# Altium schematic symbol library KIP_2.SchLib: 5 symbols
Pins are listed as number, name and electrical type; pins without a type are passive.

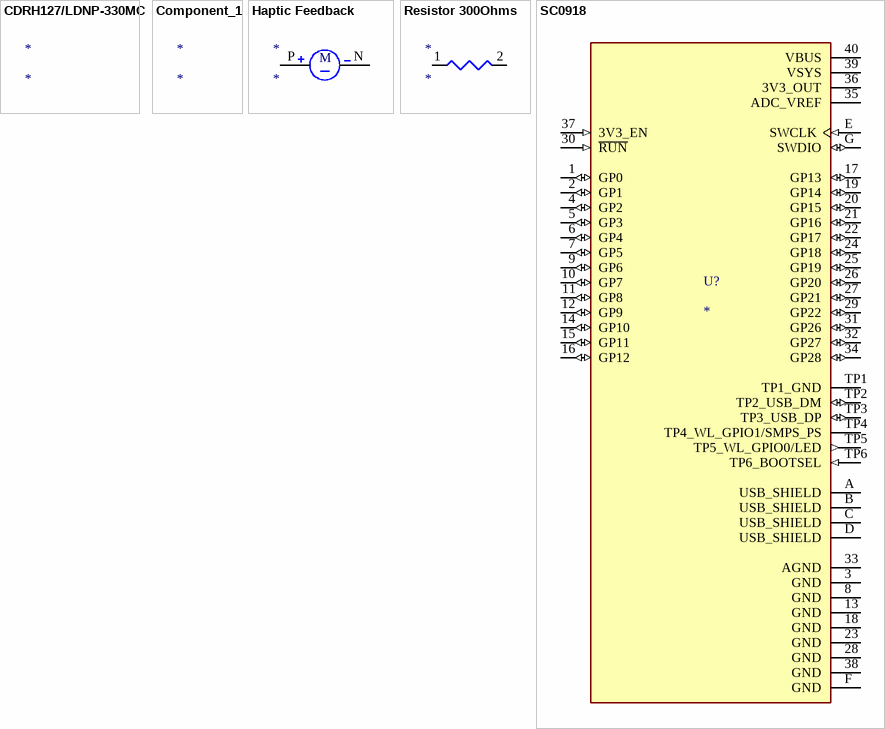
[diagram p0: symbols CDRH127/LDNP-330MC to SC0918]

## CDRH127/LDNP-330MC
designator *
General Purpose Inductor, 33uH, 20%, 1 Element, Ferrite-Core, SMD, 4747; Manufacturer: Sumida; Manufacturer Part Number: CDRH127/LDNP-330MC; Supplier: Mouser; Supplier Part Number: 851-CDRH127LDNP330MC; RoHS: Yes; Category: Fixed Inductors; Stock: 545; Pricing: 1=1.1, 10=0.906, 50=0.906, 100=0.745, 1000=0.519, 10000=0.519 (USD); Reach SVHC Compliant: No; ComponentLink1URL: https://datasheet.ciiva.com/18168/getdatasheetpartid-359498-18168744.pdf?src-supplier=Verical; ComponentLink1Description: https://datasheet.ciiva.com/18168/getdatasheetpartid-359498-18168744.pdf?src-supplier=Verical

## Component_1
designator *

## Haptic Feedback
designator *
footprint PCBComponent_1 - duplicate
pins: N NEG, P POS
text: M

## Resistor 300Ohms
designator *
pins: 1, 2

## SC0918
designator U?
RP2040 Raspberry Pi Pico - ARMÂ® CortexÂ®-M0+ MCU 32-Bit Embedded Evaluation Board; MP: SC0918; MF: Raspberry Pi; Package: None; Price: None; Check_prices: https://www.snapeda.com/parts/SC0918/Raspberry+Pi/view-part/?ref=eda; Value: *; SnapEDA_Link: https://www.snapeda.com/parts/SC0918/Raspberry+Pi/view-part/?ref=snap; Availability: In Stock; Purchase-URL: https://pricing.snapeda.com/search/part/SC0918/?ref=eda
footprint MODULE_SC0918
pins: 1 GP0 (io), 2 GP1 (io), 3 GND (power), 4 GP2 (io), 5 GP3 (io), 6 GP4 (io), 7 GP5 (io), 8 GND (power), 9 GP6 (io), 10 GP7 (io), 11 GP8 (io), 12 GP9 (io), 13 GND (power), 14 GP10 (io), 15 GP11 (io), 16 GP12 (io), 17 GP13 (io), 18 GND (power), 19 GP14 (io), 20 GP15 (io), 21 GP16 (io), 22 GP17 (io), 23 GND (power), 24 GP18 (io), 25 GP19 (io), 26 GP20 (io), 27 GP21 (io), 28 GND (power), 29 GP22 (io), 30 ~{RUN} (in), 31 GP26 (io), 32 GP27 (io), 33 AGND (power), 34 GP28 (io), 35 ADC_VREF (power), 36 3V3_OUT (power), 37 3V3_EN (in), 38 GND (power), 39 VSYS (power), 40 VBUS (power), A USB_SHIELD (power), B USB_SHIELD (power), C USB_SHIELD (power), D USB_SHIELD (power), E SWCLK (in), F GND (power), G SWDIO (io), TP1 TP1_GND (power), TP2 TP2_USB_DM (io), TP3 TP3_USB_DP (io), TP4 TP4_WL_GPIO1/SMPS_PS, TP5 TP5_WL_GPIO0/LED (out), TP6 TP6_BOOTSEL (in)